# Altium footprint library DO-41.PcbLib: 2 footprints
Each footprint in its own frame and in the unit in brackets; x right, y up, seen from the top. Pads: shape width x height; smd on the part's side, far side on the other; paste and mask are expansions set on the pad; w line width, h text height; cw(c..) or ccw(c..) is an arc to the next point about the centre after c.
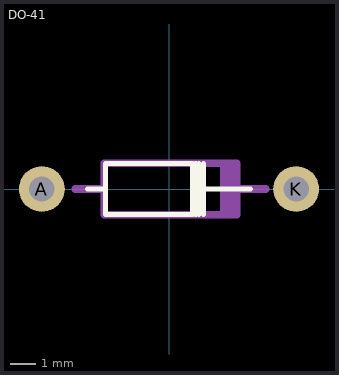
[diagram p0: the footprints below, top view; thin cyan lines are the x and y axes]

## 13F-64 [mm]
Mechanical 13:
  text ".Designator" at -2.6,-3.98 h2.5

## DO-41 [mm]
pads (2):
  round 1.8 hole 1: A(-5,0) K(5,0)
Top Overlay:
  lines w0.2: -3.2,0 -2.54,0 ; 0.925,0 3.2,0 ; 1.052,-1 1.052,1 ; 1.179,-1 1.179,1 ; 1.358,-1 1.358,1 ; -2.504,-1 0.925,-1 0.925,1 -2.504,1 -2.504,-1
Mechanical 13:
  lines w0.3: -3.683,0 -2.667,0 ; 2.159,-1.016 2.159,1.016 ; 2.413,-1.016 2.413,1.016 ; 2.667,0 3.81,0 ; -2.54,-1.016 2.667,-1.016 2.667,1.016 -2.54,1.016 -2.54,-1.016
  text ".Designator" at -2.032,-0.381 h1.52
3D body: height 3.35, standoff -2, extent -5.51,-1.303 5.51,1.397